# EAGLE library part ATSAMD21G18A (library PP_DigitalIC)
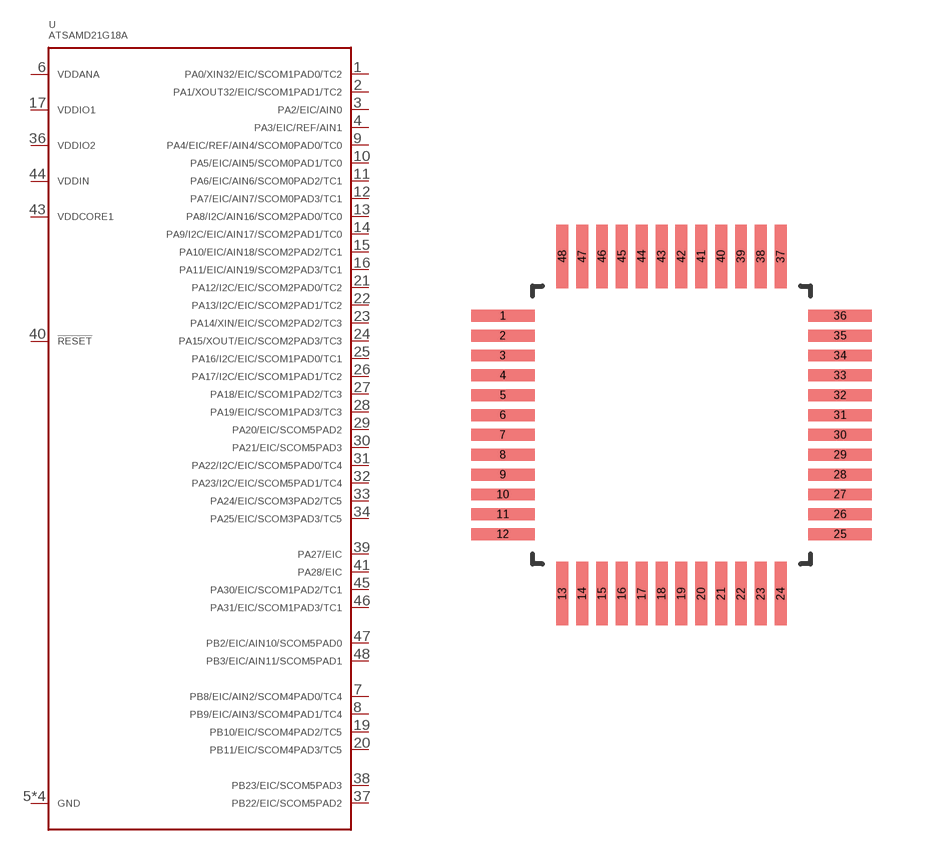
[diagram p38: symbol with the pads of ATSAMD21G18A_TQFP-48; footprint ATSAMD21G18A_TQFP-48]

Designator prefix U

## ATSAMD21G18A-AU  [ATSAMD21G18A_TQFP-48]
1  PA0/XIN32/EIC/SCOM1PAD0/TC2
2  PA1/XOUT32/EIC/SCOM1PAD1/TC2
3  PA2/EIC/AIN0
4  PA3/EIC/REF/AIN1
5  GND
6  VDDANA
7  PB8/EIC/AIN2/SCOM4PAD0/TC4
8  PB9/EIC/AIN3/SCOM4PAD1/TC4
9  PA4/EIC/REF/AIN4/SCOM0PAD0/TC0
10  PA5/EIC/AIN5/SCOM0PAD1/TC0
11  PA6/EIC/AIN6/SCOM0PAD2/TC1
12  PA7/EIC/AIN7/SCOM0PAD3/TC1
13  PA8/I2C/AIN16/SCOM2PAD0/TC0
14  PA9/I2C/EIC/AIN17/SCOM2PAD1/TC0
15  PA10/EIC/AIN18/SCOM2PAD2/TC1
16  PA11/EIC/AIN19/SCOM2PAD3/TC1
17  VDDIO1
18  GND
19  PB10/EIC/SCOM4PAD2/TC5
20  PB11/EIC/SCOM4PAD3/TC5
21  PA12/I2C/EIC/SCOM2PAD0/TC2
22  PA13/I2C/EIC/SCOM2PAD1/TC2
23  PA14/XIN/EIC/SCOM2PAD2/TC3
24  PA15/XOUT/EIC/SCOM2PAD3/TC3
25  PA16/I2C/EIC/SCOM1PAD0/TC1
26  PA17/I2C/EIC/SCOM1PAD1/TC2
27  PA18/EIC/SCOM1PAD2/TC3
28  PA19/EIC/SCOM1PAD3/TC3
29  PA20/EIC/SCOM5PAD2
30  PA21/EIC/SCOM5PAD3
31  PA22/I2C/EIC/SCOM5PAD0/TC4
32  PA23/I2C/EIC/SCOM5PAD1/TC4
33  PA24/EIC/SCOM3PAD2/TC5
34  PA25/EIC/SCOM3PAD3/TC5
35  GND
36  VDDIO2
37  PB22/EIC/SCOM5PAD2
38  PB23/EIC/SCOM5PAD3
39  PA27/EIC
40  !RESET
41  PA28/EIC
42  GND
43  VDDCORE1
44  VDDIN
45  PA30/EIC/SCOM1PAD2/TC1
46  PA31/EIC/SCOM1PAD3/TC1
47  PB2/EIC/AIN10/SCOM5PAD0
48  PB3/EIC/AIN11/SCOM5PAD1

## Footprint ATSAMD21G18A_TQFP-48 (pad centres in mm)
smd 1.6 x 0.3: 1 -4.25,2.75; 2 -4.25,2.25; 3 -4.25,1.75; 4 -4.25,1.25; 5 -4.25,0.75; 6 -4.25,0.25; 7 -4.25,-0.25; 8 -4.25,-0.75; 9 -4.25,-1.25; 10 -4.25,-1.75; 11 -4.25,-2.25; 12 -4.25,-2.75; 25 4.25,-2.75; 26 4.25,-2.25; 27 4.25,-1.75; 28 4.25,-1.25; 29 4.25,-0.75; 30 4.25,-0.25; 31 4.25,0.25; 32 4.25,0.75; 33 4.25,1.25; 34 4.25,1.75; 35 4.25,2.25; 36 4.25,2.75
smd 0.3 x 1.6: 13 -2.75,-4.25; 14 -2.25,-4.25; 15 -1.75,-4.25; 16 -1.25,-4.25; 17 -0.75,-4.25; 18 -0.25,-4.25; 19 0.25,-4.25; 20 0.75,-4.25; 21 1.25,-4.25; 22 1.75,-4.25; 23 2.25,-4.25; 24 2.75,-4.25; 37 2.75,4.25; 38 2.25,4.25; 39 1.75,4.25; 40 1.25,4.25; 41 0.75,4.25; 42 0.25,4.25; 43 -0.25,4.25; 44 -0.75,4.25; 45 -1.25,4.25; 46 -1.75,4.25; 47 -2.25,4.25; 48 -2.75,4.25